# Altium schematic symbol library Other.SchLib: 39 symbols
Pins are listed as number, name and electrical type; pins without a type are passive.

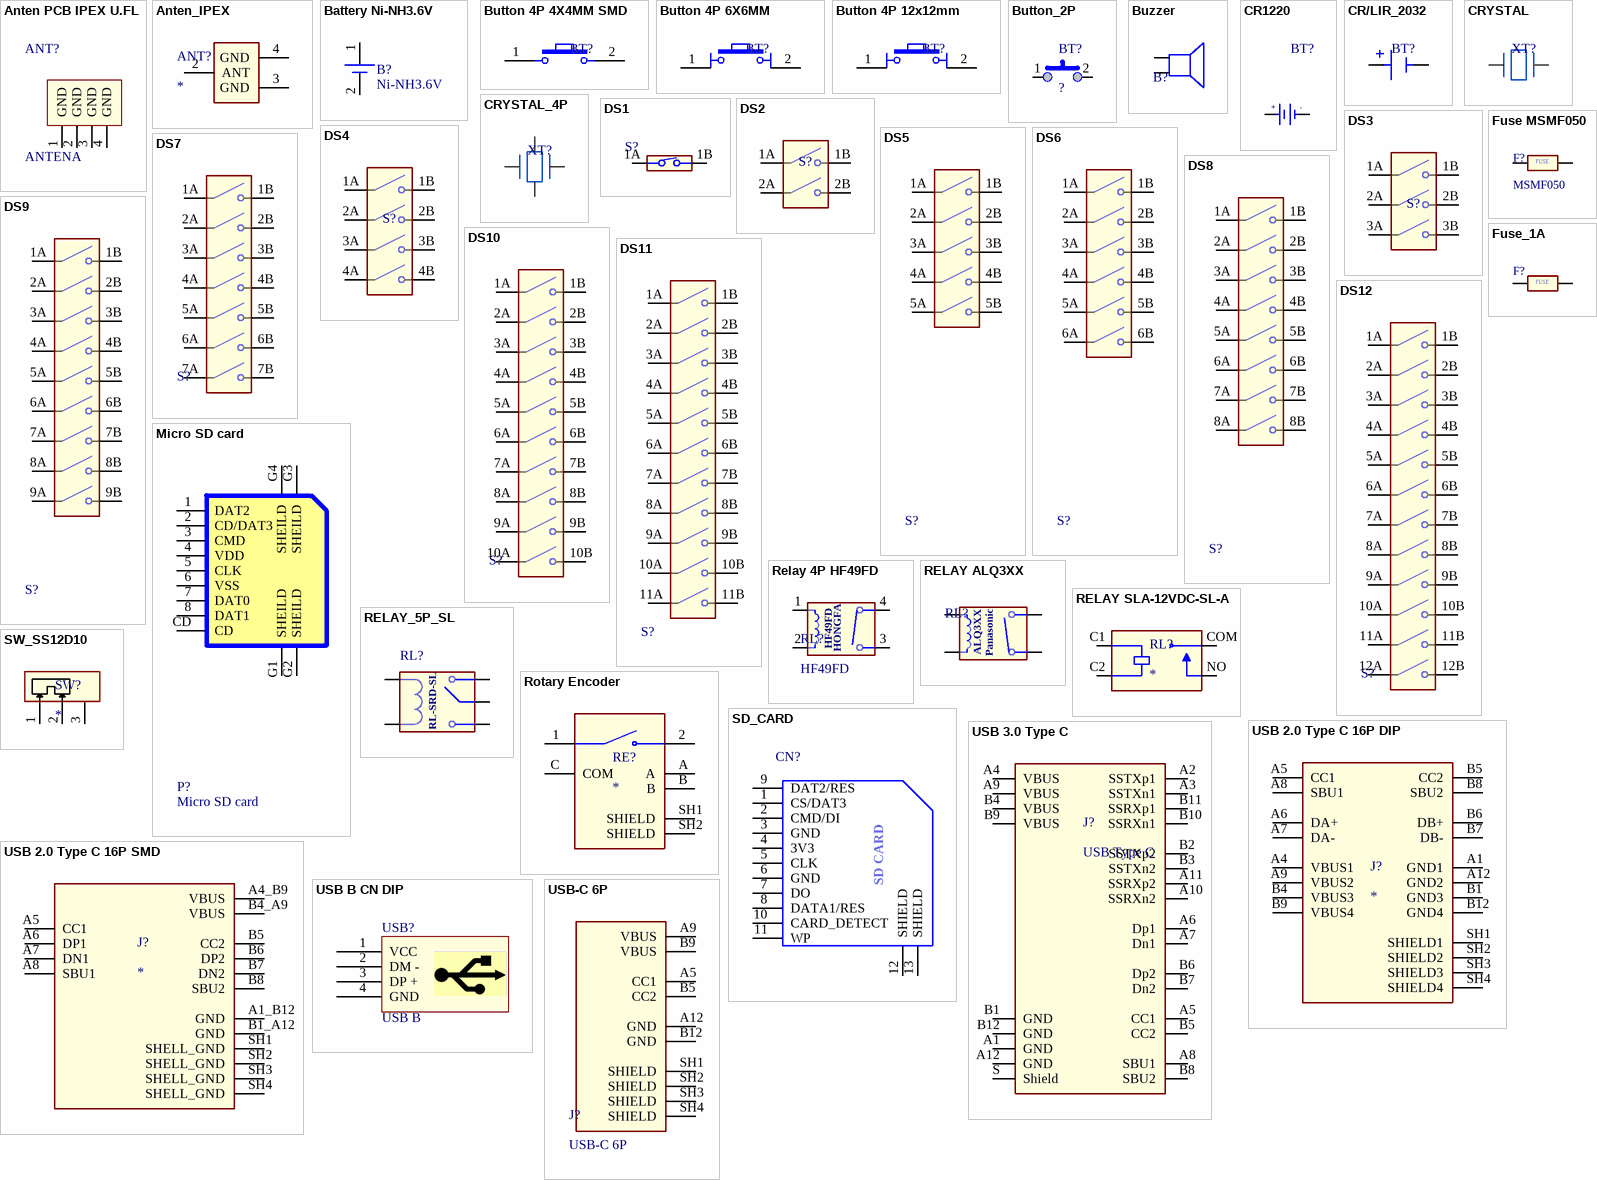
[diagram p0: symbols Anten PCB IPEX U.FL to USB-C 6P]

## Anten PCB IPEX U.FL
designator ANT?, comment ANTENA
IPEX U.FL to SMA PCB Antenna Extension Cable
footprint IPEX U.FL to SMA PCB Antenna
pins: 1 GND, 2 GND, 3 GND, 4 GND

## Anten_IPEX
designator ANT?
Anten SMA IPEX
footprint Anten_IPEX
pins: 2 ANT, 3 GND (power), 4 GND (power)

## Battery Ni-NH3.6V
designator B?, comment Ni-NH3.6V
Through hole
footprint BAT_NI-MH (L-W-H=20x16x16)
pins: 1 +, 2 -

## Button 4P 4X4MM SMD
designator BT?  (value not drawn)
Button 4P 6X6MM, SMD; Ten: Nút Nhấn 4 Chân 6x6x5MM DIP; Ma_Hang: MH004584
footprint Button 4P 4x4mm SMD (SW SMD button 4pin)
pins: 1, 2

## Button 4P 6X6MM
designator BT?  (value not drawn)
Button 4P 6X6MM, Though hole/SMD; Ten: Nút Nhấn 4 Chân 6x6x5MM DIP; Ma_Hang: MH004584
footprint BUTTON 6X6 H19MM (SW button 4pin 6X6)
footprint Button 4P 6x6mm SMD (SW SMD button 4pin, 250 x250 mil)
pins: 1, 2

## Button 4P 12x12mm
designator BT?  (value not drawn)
Button 4P 12x12MM, Through hole; Ten: Nút Nhấn 4 Chân 6x6x5MM DIP; Ma_Hang: MH004584
footprint BUTTON 12x12mm (SW button 4P 12x12)
pins: 1, 2

## Button_2P
designator BT?, comment ?
SMD
footprint B3U-1000P (Micro button 3*4*2mm)
footprint B3U-SPST (Micro button 3*4*2mm)
pins: 1, 2

## Buzzer
designator B?  (value not drawn)
Through hole
footprint Coi Chip Speacker
pins: 1, 2

## CR1220
designator BT?  (value not drawn)
SMD; Ten: Đế PIN CR1220 SMD; Ma_Hang: MH000833
footprint CR1220
pins: 1 +3V, 2 GND
text: +; -

## CR/LIR_2032
designator BT?, comment ?  (value not drawn)
Surface Mount Glass Filled Liquid Crystal Polymer CR2032 Battery Holder; MF: Renata; MP: SMTU2032-LF; SnapEDA_Link: https://www.snapeda.com/parts/SMTU2032-LF/Renata/view-part/?ref=snap; Package: None; Value: *; Check_prices: https://www.snapeda.com/parts/SMTU2032-LF/Renata/view-part/?ref=eda
footprint BAT_3032
footprint BAT_CR_LIR_2032
pins: N, P

## CRYSTAL
designator XT?  (value not drawn)
footprint Cry-5032
footprint Crystal.HC49 (HC49USxx package)
pins: 1, 2

## CRYSTAL_4P
designator XT?  (value not drawn)
footprint Crystal 4P <32x25MM>
pins: 1, 2, 3, 4

## DS1
designator S?  (value not drawn)
Dip Switch SPST 2 Position Through Hole Slide (Standard) Actuator 25mA 24VDC; MF: WÃ¼rth Elektronik; MP: 418117270902; SnapEDA_Link: https://www.snapeda.com/parts/418117270902/W%25C3%25BCrth+Elektronik+Midcom/view-part/?ref=snap; Package: None; Value: *; Check_prices: https://www.snapeda.com/parts/418117270902/W%25C3%25BCrth+Elektronik+Midcom/view-part/?ref=eda
footprint DS_1
footprint DS_1 <PIANO>
footprint DS_1 <RA>
pins: 1A COM1, 1B NO1

## DS2
designator S?, comment DS01C-254-L-04BE  (value not drawn)
2 Position, Through Hole, 2.54 mm Pitch, Raised Slide Actuator, Convex Bottom, Long Pin, DIP Switch; MF: Same Sky; SnapEDA_Link: https://www.snapeda.com/parts/DS01C-254-L-04BE/Same+Sky/view-part/?ref=snap; Package: None; Value: *; MP: DS01C-254-L-04BE; Check_prices: https://www.snapeda.com/parts/DS01C-254-L-04BE/Same+Sky/view-part/?ref=eda
footprint DS_2
footprint DS_2 <PIANO>
footprint DS_2 <RA>
pins: 1A COM1, 1B NO1, 2A COM2, 2B NO2

## DS3
designator S?  (value not drawn)
3 Position, Through Hole, 2.54 mm Pitch, Raised Slide Actuator, Convex Bottom, Long Pin, DIP Switch; MF: Same Sky; MP: DS01C-254-L-04BE; SnapEDA_Link: https://www.snapeda.com/parts/DS01C-254-L-04BE/Same+Sky/view-part/?ref=snap; Package: None; Value: *; Check_prices: https://www.snapeda.com/parts/DS01C-254-L-04BE/Same+Sky/view-part/?ref=eda
footprint DS_3
footprint DS_3 <PIANO>
footprint DS_3 <RA>
pins: 1A COM1, 1B NO1, 2A COM2, 2B NO2, 3A COM3, 3B NO3

## DS4
designator S?, comment DS01C-254-L-04BE  (value not drawn)
4 Position, Through Hole, 2.54 mm Pitch, Raised Slide Actuator, Convex Bottom, Long Pin, DIP Switch; MF: Same Sky; SnapEDA_Link: https://www.snapeda.com/parts/DS01C-254-L-04BE/Same+Sky/view-part/?ref=snap; Package: None; Value: *; MP: DS01C-254-L-04BE; Check_prices: https://www.snapeda.com/parts/DS01C-254-L-04BE/Same+Sky/view-part/?ref=eda
footprint DS_4
footprint DS_4 <PIANO>
footprint DS_4 <RA>
pins: 1A COM1, 1B NO1, 2A COM2, 2B NO2, 3A COM3, 3B NO3, 4A COM4, 4B NO4

## DS5
designator S?  (value not drawn)
5 Position, Through Hole, 2.54 mm Pitch, Raised Slide Actuator, Convex Bottom, Long Pin, DIP Switch; MF: Same Sky; MP: DS01C-254-L-04BE; SnapEDA_Link: https://www.snapeda.com/parts/DS01C-254-L-04BE/Same+Sky/view-part/?ref=snap; Package: None; Value: *; Check_prices: https://www.snapeda.com/parts/DS01C-254-L-04BE/Same+Sky/view-part/?ref=eda
footprint DS_5
footprint DS_5 <PIANO>
footprint DS_5 <RA>
pins: 1A COM1, 1B NO1, 2A COM2, 2B NO2, 3A COM3, 3B NO3, 4A COM4, 4B NO4, 5A COM5, 5B NO5

## DS6
designator S?  (value not drawn)
6 Position, Through Hole, 2.54 mm Pitch, Raised Slide Actuator, Convex Bottom, Long Pin, DIP Switch; MF: Same Sky; MP: DS01C-254-L-04BE; SnapEDA_Link: https://www.snapeda.com/parts/DS01C-254-L-04BE/Same+Sky/view-part/?ref=snap; Package: None; Value: *; Check_prices: https://www.snapeda.com/parts/DS01C-254-L-04BE/Same+Sky/view-part/?ref=eda
footprint DS_6
footprint DS_6 <PIANO>
footprint DS_6 <RA>
pins: 1A COM1, 1B NO1, 2A COM2, 2B NO2, 3A COM3, 3B NO3, 4A COM4, 4B NO4, 5A COM5, 5B NO5, 6A COM6, 6B NO6

## DS7
designator S?  (value not drawn)
7 Position, Through Hole, 2.54 mm Pitch, Raised Slide Actuator, Convex Bottom, Long Pin, DIP Switch; MF: Same Sky; MP: DS01C-254-L-04BE; SnapEDA_Link: https://www.snapeda.com/parts/DS01C-254-L-04BE/Same+Sky/view-part/?ref=snap; Package: None; Value: *; Check_prices: https://www.snapeda.com/parts/DS01C-254-L-04BE/Same+Sky/view-part/?ref=eda
footprint DS_7
footprint DS_7 <PIANO>
footprint DS_7 <RA>
pins: 1A COM1, 1B NO1, 2A COM2, 2B NO2, 3A COM3, 3B NO3, 4A COM4, 4B NO4, 5A COM5, 5B NO5, 6A COM6, 6B NO6, 7A COM7, 7B NO7

## DS8
designator S?  (value not drawn)
8 Position, Through Hole, 2.54 mm Pitch, Raised Slide Actuator, Convex Bottom, Long Pin, DIP Switch; MF: Same Sky; MP: DS01C-254-L-04BE; SnapEDA_Link: https://www.snapeda.com/parts/DS01C-254-L-04BE/Same+Sky/view-part/?ref=snap; Package: None; Value: *; Check_prices: https://www.snapeda.com/parts/DS01C-254-L-04BE/Same+Sky/view-part/?ref=eda
footprint DS_8
footprint DS_8 <PIANO>
footprint DS_8 <RA>
pins: 1A COM1, 1B NO1, 2A COM2, 2B NO2, 3A COM3, 3B NO3, 4A COM4, 4B NO4, 5A COM5, 5B NO5, 6A COM6, 6B NO6, 7A COM7, 7B NO7, 8A COM8, 8B NO8

## DS9
designator S?  (value not drawn)
9 Position, Through Hole, 2.54 mm Pitch, Raised Slide Actuator, Convex Bottom, Long Pin, DIP Switch; MF: Same Sky; MP: DS01C-254-L-04BE; SnapEDA_Link: https://www.snapeda.com/parts/DS01C-254-L-04BE/Same+Sky/view-part/?ref=snap; Package: None; Value: *; Check_prices: https://www.snapeda.com/parts/DS01C-254-L-04BE/Same+Sky/view-part/?ref=eda
footprint DS_9
footprint DS_9 <PIANO>
footprint DS_9 <RA>
pins: 1A COM1, 1B NO1, 2A COM2, 2B NO2, 3A COM3, 3B NO3, 4A COM4, 4B NO4, 5A COM5, 5B NO5, 6A COM6, 6B NO6, 7A COM7, 7B NO7, 8A COM8, 8B NO8, 9A COM9, 9B NO9

## DS10
designator S?  (value not drawn)
10 Position, Through Hole, 2.54 mm Pitch, Raised Slide Actuator, Convex Bottom, Long Pin, DIP Switch; MF: Same Sky; MP: DS01C-254-L-04BE; SnapEDA_Link: https://www.snapeda.com/parts/DS01C-254-L-04BE/Same+Sky/view-part/?ref=snap; Package: None; Value: *; Check_prices: https://www.snapeda.com/parts/DS01C-254-L-04BE/Same+Sky/view-part/?ref=eda
footprint DS_10
footprint DS_10 <PIANO>
footprint DS_10 <RA>
pins: 1A COM1, 1B NO1, 2A COM2, 2B NO2, 3A COM3, 3B NO3, 4A COM4, 4B NO4, 5A COM5, 5B NO5, 6A COM6, 6B NO6, 7A COM7, 7B NO7, 8A COM8, 8B NO8, 9A COM9, 9B NO9, 10A COM10, 10B NO10

## DS11
designator S?  (value not drawn)
11 Position, Through Hole, 2.54 mm Pitch, Raised Slide Actuator, Convex Bottom, Long Pin, DIP Switch; MF: Same Sky; MP: DS01C-254-L-04BE; SnapEDA_Link: https://www.snapeda.com/parts/DS01C-254-L-04BE/Same+Sky/view-part/?ref=snap; Package: None; Value: *; Check_prices: https://www.snapeda.com/parts/DS01C-254-L-04BE/Same+Sky/view-part/?ref=eda
footprint DS_11
footprint DS_11 <PIANO>
footprint DS_11 <RA>
pins: 1A COM1, 1B NO1, 2A COM2, 2B NO2, 3A COM3, 3B NO3, 4A COM4, 4B NO4, 5A COM5, 5B NO5, 6A COM6, 6B NO6, 7A COM7, 7B NO7, 8A COM8, 8B NO8, 9A COM9, 9B NO9, 10A COM10, 10B NO10, 11A COM11, 11B NO11

## DS12
designator S?  (value not drawn)
12 Position, Through Hole, 2.54 mm Pitch, Raised Slide Actuator, Convex Bottom, Long Pin, DIP Switch; MF: Same Sky; MP: DS01C-254-L-04BE; SnapEDA_Link: https://www.snapeda.com/parts/DS01C-254-L-04BE/Same+Sky/view-part/?ref=snap; Package: None; Value: *; Check_prices: https://www.snapeda.com/parts/DS01C-254-L-04BE/Same+Sky/view-part/?ref=eda
footprint DS_12
footprint DS_12 <PIANO>
footprint DS_12 <RA>
pins: 1A COM1, 1B NO1, 2A COM2, 2B NO2, 3A COM3, 3B NO3, 4A COM4, 4B NO4, 5A COM5, 5B NO5, 6A COM6, 6B NO6, 7A COM7, 7B NO7, 8A COM8, 8B NO8, 9A COM9, 9B NO9, 10A COM10, 10B NO10, 11A COM11, 11B NO11, 12A COM12, 12B NO12

## Fuse MSMF050
designator F?, comment MSMF050
SMD
footprint FUSE_PTC
pins: 1, 2
text: FUSE

## Fuse_1A
designator F?  (value not drawn)
SMD
footprint FUSE_1A
pins: 1, 2
text: FUSE

## Micro SD card
designator P?
SMD
footprint MicroSD
pins: 1 DAT2, 2 CD/DAT3, 3 CMD, 4 VDD, 5 CLK, 6 VSS, 7 DAT0, 8 DAT1, CD, G1 SHEILD, G2 SHEILD, G3 SHEILD, G4 SHEILD

## Relay 4P HF49FD
designator RL?, comment HF49FD
Relay 4P HF49FD, 5VDC, 220VAC 5A
footprint RELAY_HF49FD/005-1H12T
pins: 1, 2, 3 AC/DC, 4 AC/DC
text: HONGFA

## RELAY ALQ3XX
designator RL?  (value not drawn)
Relay 4P panasonic ALQ 3XX, 5V-12V-24VDC, 220VAC 10A
footprint RELAY_ALQ3XX
pins: C1, C2, COM, NO
text: ALQ3XX; Panasonic

## RELAY SLA-12VDC-SL-A
designator RL?
SUBMINIATURE HIGH POWER RELAY 4P; MF: Songle Relay; MP: SLA-12VDC-SL-A; SnapEDA_Link: https://www.snapeda.com/parts/SLA-12VDC-SL-A/Songle+Relay/view-part/?ref=snap; Package: Package; Value: *; Check_prices: https://www.snapeda.com/parts/SLA-12VDC-SL-A/Songle+Relay/view-part/?ref=eda
footprint RELAY_SLA_SPST 4P 30A (RELAY 5-12-24 VDC)
pins: C1 COIL1, C2 COIL2, COM, NO

## RELAY_5P_SL
designator RL?  (value not drawn)
Relay 5 pin SONGLE 5-12-24 VDC, 220VAC 10A
footprint RELAY_SRD_SONGLE (RELAY 5-12-24 VDC)
pins: COIL1, COIL2, COM, NC, NO
text: RL-SRD-SL

## Rotary Encoder
designator RE?
Through hole; MF: Bourns; MP: PEC11R-4215K-S0024; SnapEDA_Link: https://www.snapeda.com/parts/PEC11R-4215K-S0024/Bourns/view-part/?ref=snap; Package: None; Value: *; Check_prices: https://www.snapeda.com/parts/PEC11R-4215K-S0024/Bourns/view-part/?ref=eda
footprint Rotary Encoder
pins: 1, 2, A, B, C COM, SH1 SHIELD, SH2 SHIELD

## SD_CARD
designator CN?  (value not drawn)
SMD
footprint SD CARD
pins: 1 CS/DAT3, 2 CMD/DI, 3 GND, 4 3V3, 5 CLK, 6 GND, 7 DO, 8 DATA1/RES, 9 DAT2/RES, 10 CARD_DETECT, 11 WP, 12 SHIELD, 13 SHIELD
text: SD CARD

## SW_SS12D10
designator SW?
SS-12D10 3-Pin Through-Hole Slide Switch ON-OFF 1P2T 0.5A
footprint SW_12D10
pins: 1, 2, 3

## USB 2.0 Type C 16P DIP
designator J?
USB-C (USB TYPE-C) USB 2.0 Receptacle Connector 24 (16+8 Dummy) Position Through Hole, Right Angle; MF: Molex; MP: 2137160001; SnapEDA_Link: https://www.snapeda.com/parts/2137160001/Molex/view-part/?ref=snap; Package: None; Value: *; Check_prices: https://www.snapeda.com/parts/2137160001/Molex/view-part/?ref=eda
footprint Type C 16P DIP
pins: A1 GND1 (power), A4 VBUS1 (power), A5 CC1, A6 DA+, A7 DA-, A8 SBU1, A9 VBUS2 (power), A12 GND2 (power), B1 GND3 (power), B4 VBUS3 (power), B5 CC2, B6 DB+, B7 DB-, B8 SBU2, B9 VBUS4 (power), B12 GND4 (power), SH1 SHIELD1, SH2 SHIELD2, SH3 SHIELD3, SH4 SHIELD4

## USB 2.0 Type C 16P SMD
designator J?
USB CONN, 2.0 TYPE C, RCPT, 16POS, SMT; USB Connector Type:USB Type C; USB Standard:USB 2.0; Gender:Receptacle; No. of Positions:16Positions; Connector Mounting:Surface Mount, Through Hole Mount; Orientation:Right Angle RoHS Compliant: Yes; MF: Global Connector Technology; MP: USB4105GFA120; SnapEDA_Link: https://www.snapeda.com/parts/USB4105GFA120/Global+Connector+Technology/view-part/?ref=snap; Package: None; Value: *; Check_prices: https://www.snapeda.com/parts/USB4105GFA120/Global+Connector+Technology/view-part/?ref=eda
footprint TYPE C 16P SMD
pins: A1_B12 GND (power), A4_B9 VBUS (power), A5 CC1, A6 DP1, A7 DN1, A8 SBU1, B1_A12 GND (power), B4_A9 VBUS (power), B5 CC2, B6 DP2, B7 DN2, B8 SBU2, SH1 SHELL_GND (power), SH2 SHELL_GND (power), SH3 SHELL_GND (power), SH4 SHELL_GND (power)

## USB 3.0 Type C
designator J?, comment USB Type C
SMD
footprint USB TYPE C 3.2 24pin (USB-C Receptacle Connector 24 Position Surface Mount, 24 Position, Body 8.94x7.90mm)
pins: A1 GND, A2 SSTXp1, A3 SSTXn1, A4 VBUS, A5 CC1, A6 Dp1, A7 Dn1, A8 SBU1, A9 VBUS, A10 SSRXn2, A11 SSRXp2, A12 GND, B1 GND, B2 SSTXp2, B3 SSTXn2, B4 VBUS, B5 CC2, B6 Dp2, B7 Dn2, B8 SBU2, B9 VBUS, B10 SSRXn1, B11 SSRXp1, B12 GND, S Shield

## USB B CN DIP
designator USB?, comment USB B
USB Type B; Ten: USB B Cái DIP; Ma_Hang: MH000939
footprint USB B CN DIP
pins: 1 VCC, 2 DM -, 3 DP +, 4 GND

## USB-C 6P
designator J?
Type C, 20 Vdc, 3 A, Right Angle, Gold Flash, Surface Mount, Black Insulator, Power-Only USB Receptacle; MF: Same Sky; MP: UJC-HP-G-5-SMT-TR; SnapEDA_Link: https://www.snapeda.com/parts/UJC-HP-G-5-SMT-TR/Same+Sky/view-part/?ref=snap; Package: None; Value: *; Check_prices: https://www.snapeda.com/parts/UJC-HP-G-5-SMT-TR/Same+Sky/view-part/?ref=eda; taobao: https://item.taobao.com/item.htm?id=737583086190&skuId=5261678138786
footprint USB-C 6P - DIP (USB-C 6P)
pins: A5 CC1, A9 VBUS (power), A12 GND (power), B5 CC2, B9 VBUS (power), B12 GND (power), SH1 SHIELD, SH2 SHIELD, SH3 SHIELD, SH4 SHIELD